# EAGLE library part SI5351A-B-GTR (library SI5351A-B-GTR)
Clock Generator 10MHz to 100MHz-IN 160MHz-OUT 10-Pin MSOP T/R Source: Datasheet <https://www.mouser.de/datasheet/2/472/Si5351_B-2507774.pdf>
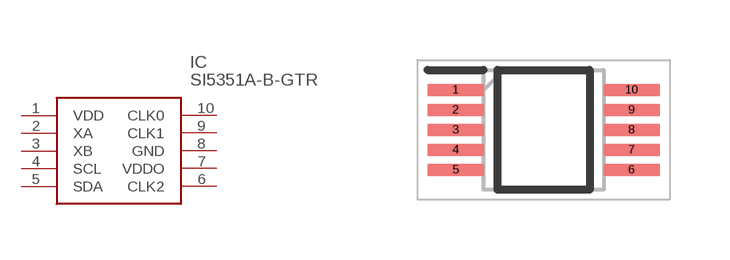
[diagram p0: symbol with the pads of SOP50P490X110-10N; footprint SOP50P490X110-10N]

Designator prefix IC

## SI5351A-B-GTR (Description: Clock Generator 10MHz to 100MHz-IN 160MHz-OUT 10-Pin MSOP T/R; Height: 1.1mm; Manufacturer_Name: Skyworks; Manufacturer_Part_Number: SI5351A-B-GTR; Mouser_Part_Number: 634-SI5351A-B-GTR; Mouser_Price-Stock: https://www.mouser.co.uk/ProductDetail/Skyworks-Solutions-Inc/SI5351A-B-GTR?qs=p9T7GgSe1IEYql%252BRMAlVcw%3D%3D)  [SOP50P490X110-10N]
1  VDD
2  XA
3  XB
4  SCL
5  SDA
6  CLK2
7  VDDO
8  GND
9  CLK1
10  CLK0

## Footprint SOP50P490X110-10N (pad centres in mm)
10-MSOP Package
smd 1.4 x 0.3: 1 -2.2,1; 2 -2.2,0.5; 3 -2.2,0; 4 -2.2,-0.5; 5 -2.2,-1; 6 2.2,-1; 7 2.2,-0.5; 8 2.2,0; 9 2.2,0.5; 10 2.2,1